# EAGLE library part AP22655QWU-7 (library AP22655QWU-7)
Power Switch ICs - Power Distribution Load Switch TSOT26 T&R 3K Source: Datasheet <https://www.diodes.com/assets/Datasheets/AP22654Q_AP22655Q.pdf>
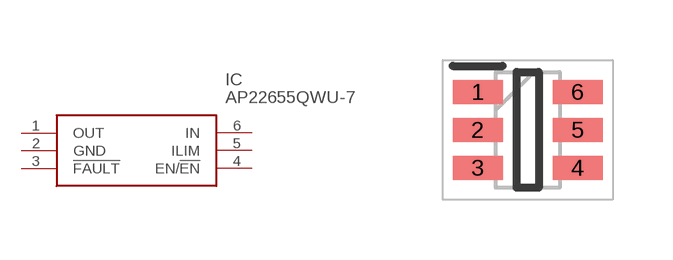
[diagram p0: symbol with the pads of SOT95P280X82-6N; footprint SOT95P280X82-6N]

Designator prefix IC

## AP22655QWU-7 (Description: Power Switch ICs - Power Distribution Load Switch TSOT26 T&R 3K; Height: 0.825mm; Manufacturer_Name: Diodes Incorporated; Manufacturer_Part_Number: AP22655QWU-7; Mouser_Part_Number: 621-AP22655QWU-7; Mouser_Price-Stock: https://www.mouser.co.uk/ProductDetail/Diodes-Incorporated/AP22655QWU-7?qs=ulEaXIWI0c9S0Nhcy0ljbQ%3D%3D)  [SOT95P280X82-6N]
1  OUT
2  GND
3  !FAULT
4  EN/!EN
5  ILIM
6  IN

## Footprint SOT95P280X82-6N (pad centres in mm)
TSOT26 (Type A1)-1
smd 1.25 x 0.6: 1 -1.25,0.95; 2 -1.25,0; 3 -1.25,-0.95; 4 1.25,-0.95; 5 1.25,0; 6 1.25,0.95